# Altium schematic symbol library Synth.SchLib: 2 symbols
Pins are listed as number, name and electrical type; pins without a type are passive.

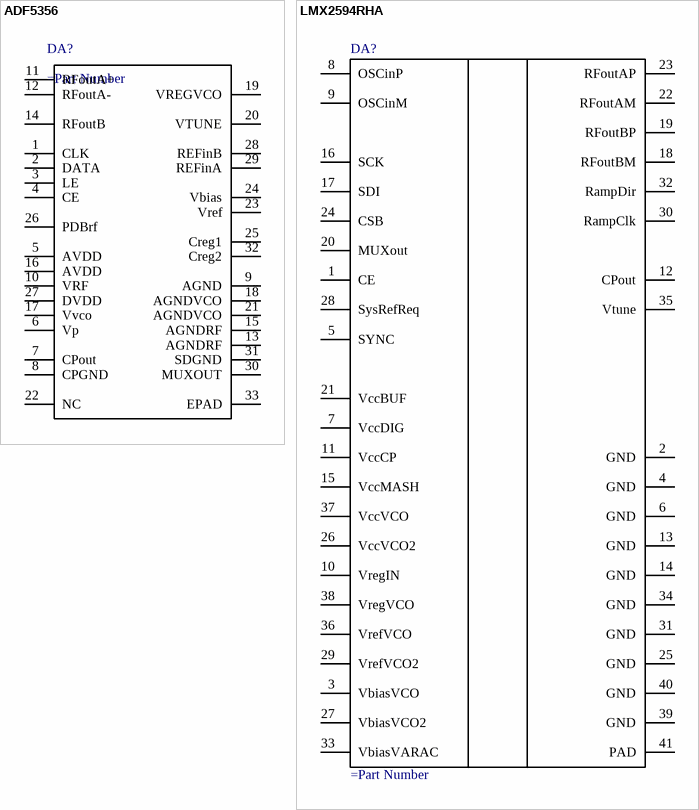
[diagram p0: symbols ADF5356 to LMX2594RHA]

## ADF5356
designator DA?
pins: 1 CLK, 2 DATA, 3 LE, 4 CE, 5 AVDD, 6 Vp, 7 CPout, 8 CPGND, 9 AGND, 10 VRF, 11 RFoutA+, 12 RFoutA-, 13 AGNDRF, 14 RFoutB, 15 AGNDRF, 16 AVDD, 17 Vvco, 18 AGNDVCO, 19 VREGVCO, 20 VTUNE, 21 AGNDVCO, 22 NC, 23 Vref, 24 Vbias, 25 Creg1, 26 PDBrf, 27 DVDD, 28 REFinB, 29 REFinA, 30 MUXOUT, 31 SDGND, 32 Creg2, 33 EPAD

## LMX2594RHA
designator DA?
Value: LMX2594RHA; UID: LMX2594RHA
pins: 1 CE, 2 GND, 3 VbiasVCO, 4 GND, 5 SYNC, 6 GND, 7 VccDIG, 8 OSCinP, 9 OSCinM, 10 VregIN, 11 VccCP, 12 CPout, 13 GND, 14 GND, 15 VccMASH, 16 SCK, 17 SDI, 18 RFoutBM, 19 RFoutBP, 20 MUXout, 21 VccBUF, 22 RFoutAM, 23 RFoutAP, 24 CSB, 25 GND, 26 VccVCO2, 27 VbiasVCO2, 28 SysRefReq, 29 VrefVCO2, 30 RampClk, 31 GND, 32 RampDir, 33 VbiasVARAC, 34 GND, 35 Vtune, 36 VrefVCO, 37 VccVCO, 38 VregVCO, 39 GND, 40 GND, 41 PAD